# Altium footprint library Button_Switch_THT.PcbLib: 106 footprints (part 4 of 7)
Each footprint in its own frame and in the unit in brackets; x right, y up, seen from the top. Pads: shape width x height; smd on the part's side, far side on the other; paste and mask are expansions set on the pad; w line width, h text height; cw(c..) or ccw(c..) is an arc to the next point about the centre after c.
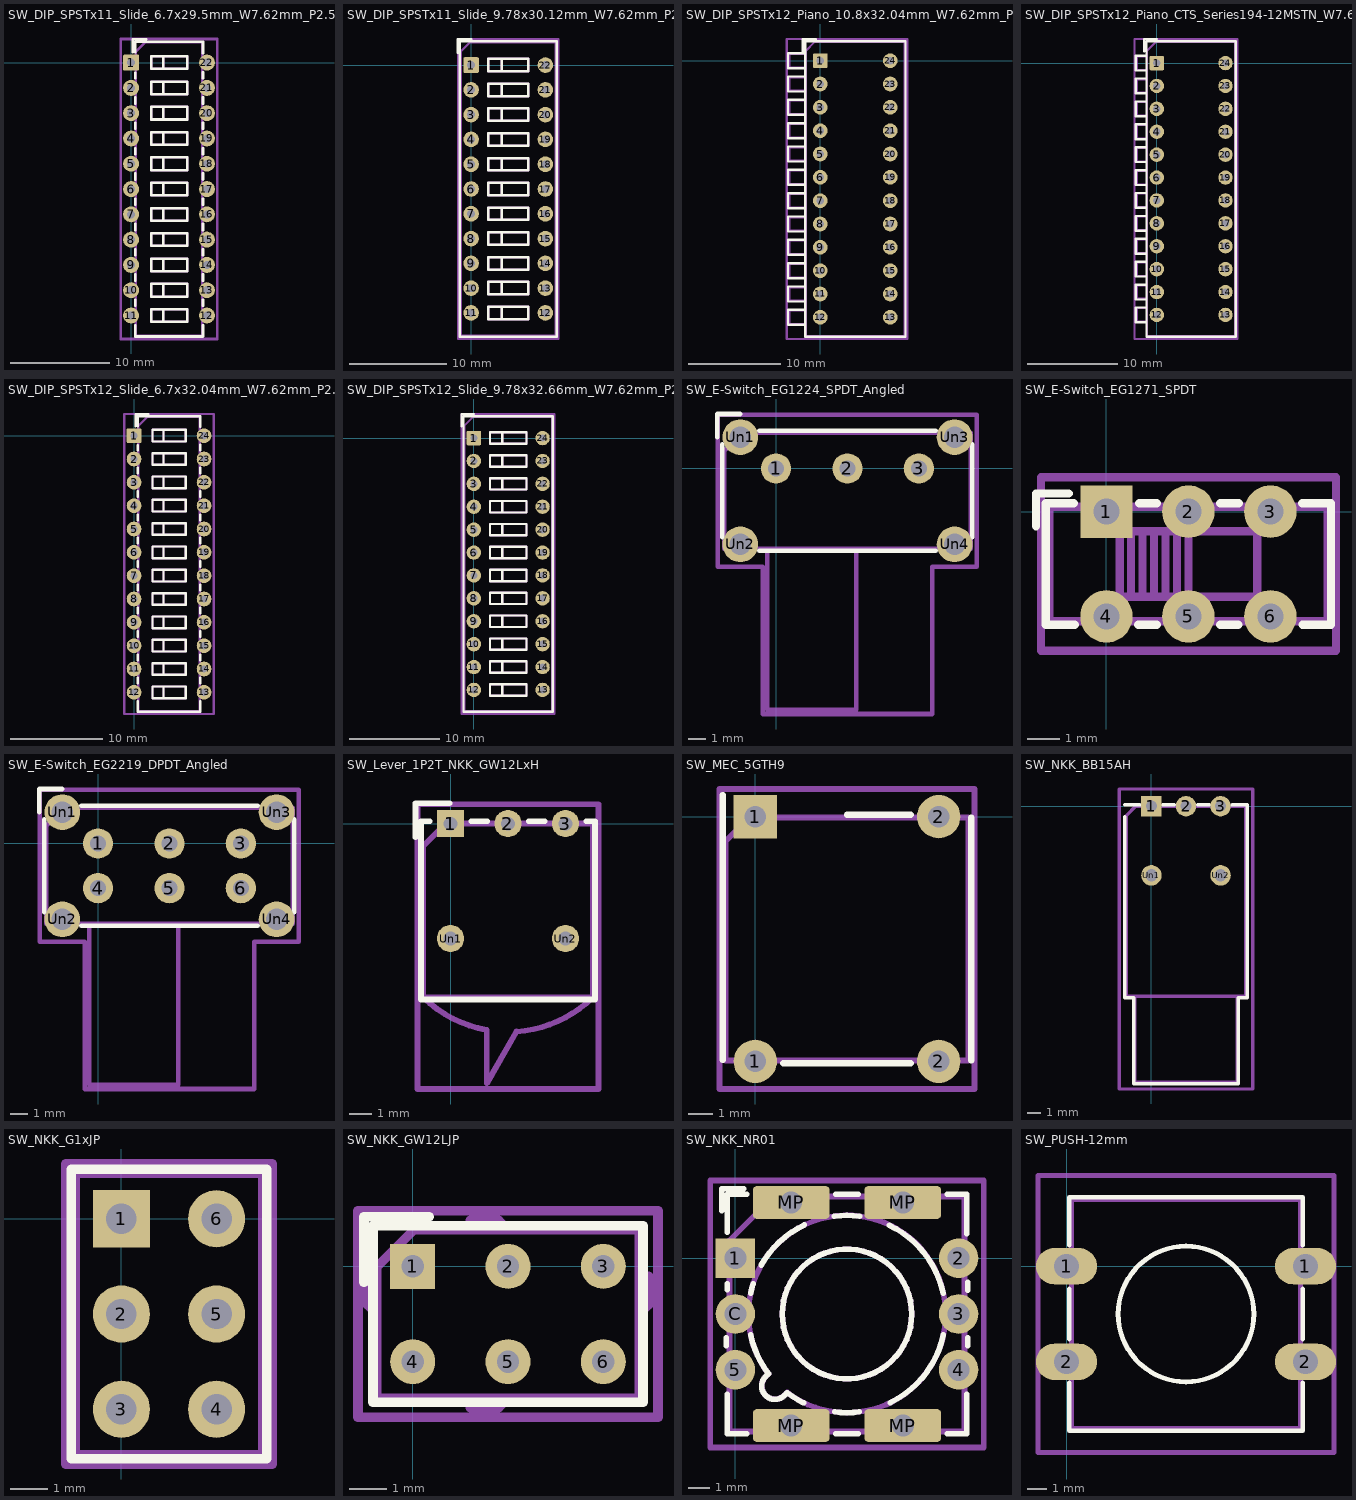
[diagram p3: the footprints below, top view; thin cyan lines are the x and y axes]

## SW_DIP_SPSTx11_Slide_6.7x29.5mm_W7.62mm_P2.54mm_LowProfile [mm]
pads (22):
  rrect16% 1.6x1.6 hole 0.8: 1(0,0)
  round 1.6 hole 0.8: 2(0,-2.54) 3(0,-5.08) 4(0,-7.62) 5(0,-10.16) 6(0,-12.7) 7(0,-15.24) 8(0,-17.78) 9(0,-20.32) 10(0,-22.86) 11(0,-25.4) 12(7.62,-25.4) 13(7.62,-22.86) 14(7.62,-20.32) 15(7.62,-17.78) 16(7.62,-15.24) 17(7.62,-12.7) 18(7.62,-10.16) 19(7.62,-7.62) 20(7.62,-5.08) 21(7.62,-2.54) 22(7.62,0)
F.SilkS:
  lines w0.254: 0.16,1.04 0.16,2.35 1.543,2.35 ; 0.4,-26.36 0.4,-27.51 7.22,-27.51 7.22,-26.36 ; 0.4,-24.44 0.4,-23.82 ; 0.4,-21.9 0.4,-21.28 ; 0.4,-19.36 0.4,-18.74 ; 0.4,-16.82 0.4,-16.2 ; 0.4,-14.28 0.4,-13.66 ; 0.4,-11.74 0.4,-11.12 ; 0.4,-9.2 0.4,-8.58 ; 0.4,-6.66 0.4,-6.04 ; 0.4,-4.12 0.4,-3.5 ; 0.4,-1.58 0.4,-1.04 ; 0.4,1.04 0.4,2.11 7.22,2.11 7.22,0.96 ; 7.22,-24.44 7.22,-23.82 ; 7.22,-21.9 7.22,-21.28 ; 7.22,-19.36 7.22,-18.74 ; 7.22,-16.82 7.22,-16.2 ; 7.22,-14.28 7.22,-13.66 ; 7.22,-11.74 7.22,-11.12 ; 7.22,-9.2 7.22,-8.58 ; 7.22,-6.66 7.22,-6.04 ; 7.22,-4.12 7.22,-3.5 ; 7.22,-1.58 7.22,-0.96 ; 2,-26.035 2,-24.765 ; 2,-26.035 3.207,-26.035 ; 2,-26.035 2,-24.765 ; 2,-26.035 5.62,-26.035 5.62,-24.765 2,-24.765 ; 2,-24.765 3.207,-24.765 ; 2,-23.495 2,-22.225 ; 2,-23.495 3.207,-23.495 ; 2,-23.495 2,-22.225 ; 2,-23.495 5.62,-23.495 5.62,-22.225 2,-22.225 ; 2,-22.225 3.207,-22.225 ; 2,-20.955 2,-19.685 ; 2,-20.955 3.207,-20.955 ; 2,-20.955 2,-19.685 ; 2,-20.955 5.62,-20.955 5.62,-19.685 2,-19.685 ; 2,-19.685 3.207,-19.685 ; 2,-18.415 2,-17.145 ; 2,-18.415 3.207,-18.415 ; 2,-18.415 2,-17.145 ; 2,-18.415 5.62,-18.415 5.62,-17.145 2,-17.145 ; 2,-17.145 3.207,-17.145 ; 2,-15.875 2,-14.605 ; 2,-15.875 3.207,-15.875 ; 2,-15.875 2,-14.605 ; 2,-15.875 5.62,-15.875 5.62,-14.605 2,-14.605 ; 2,-14.605 3.207,-14.605 ; 2,-13.335 2,-12.065 ; 2,-13.335 3.207,-13.335 ; 2,-13.335 2,-12.065 ; 2,-13.335 5.62,-13.335 5.62,-12.065 2,-12.065 ; 2,-12.065 3.207,-12.065 ; 2,-10.795 2,-9.525 ; 2,-10.795 3.207,-10.795 ; 2,-10.795 2,-9.525 ; 2,-10.795 5.62,-10.795 5.62,-9.525 2,-9.525 ; 2,-9.525 3.207,-9.525 ; 2,-8.255 2,-6.985 ; 2,-8.255 3.207,-8.255 ; 2,-8.255 2,-6.985 ; 2,-8.255 5.62,-8.255 5.62,-6.985 2,-6.985 ; 2,-6.985 3.207,-6.985 ; 2,-5.715 2,-4.445 ; 2,-5.715 3.207,-5.715 ; 2,-5.715 2,-4.445 ; 2,-5.715 5.62,-5.715 5.62,-4.445 2,-4.445 ; 2,-4.445 3.207,-4.445 ; 2,-3.175 2,-1.905 ; 2,-3.175 3.207,-3.175 ; 2,-3.175 2,-1.905 ; 2,-3.175 5.62,-3.175 5.62,-1.905 2,-1.905 ; 2,-1.905 3.207,-1.905 ; 2,-0.635 2,0.635 ; 2,-0.635 3.207,-0.635 ; 2,-0.635 2,0.635 ; 2,-0.635 5.62,-0.635 5.62,0.635 2,0.635 ; 2,0.635 3.207,0.635 ; 3.207,-26.035 3.207,-24.765 ; 3.207,-26.035 3.207,-24.765 ; 3.207,-23.495 3.207,-22.225 ; 3.207,-23.495 3.207,-22.225 ; 3.207,-20.955 3.207,-19.685 ; 3.207,-20.955 3.207,-19.685 ; 3.207,-18.415 3.207,-17.145 ; 3.207,-18.415 3.207,-17.145 ; 3.207,-15.875 3.207,-14.605 ; 3.207,-15.875 3.207,-14.605 ; 3.207,-13.335 3.207,-12.065 ; 3.207,-13.335 3.207,-12.065 ; 3.207,-10.795 3.207,-9.525 ; 3.207,-10.795 3.207,-9.525 ; 3.207,-8.255 3.207,-6.985 ; 3.207,-8.255 3.207,-6.985 ; 3.207,-5.715 3.207,-4.445 ; 3.207,-5.715 3.207,-4.445 ; 3.207,-3.175 3.207,-1.905 ; 3.207,-3.175 3.207,-1.905 ; 3.207,-0.635 3.207,0.635 ; 3.207,-0.635 3.207,0.635
F.Fab:
  lines w0.254: 2,-26.035 2,-24.765 ; 2,-26.035 3.207,-26.035 ; 2,-26.035 2,-24.765 ; 2,-26.035 5.62,-26.035 5.62,-24.765 2,-24.765 ; 2,-24.765 3.207,-24.765 ; 2,-23.495 2,-22.225 ; 2,-23.495 3.207,-23.495 ; 2,-23.495 2,-22.225 ; 2,-23.495 5.62,-23.495 5.62,-22.225 2,-22.225 ; 2,-22.225 3.207,-22.225 ; 2,-20.955 2,-19.685 ; 2,-20.955 3.207,-20.955 ; 2,-20.955 2,-19.685 ; 2,-20.955 5.62,-20.955 5.62,-19.685 2,-19.685 ; 2,-19.685 3.207,-19.685 ; 2,-18.415 2,-17.145 ; 2,-18.415 3.207,-18.415 ; 2,-18.415 2,-17.145 ; 2,-18.415 5.62,-18.415 5.62,-17.145 2,-17.145 ; 2,-17.145 3.207,-17.145 ; 2,-15.875 2,-14.605 ; 2,-15.875 3.207,-15.875 ; 2,-15.875 2,-14.605 ; 2,-15.875 5.62,-15.875 5.62,-14.605 2,-14.605 ; 2,-14.605 3.207,-14.605 ; 2,-13.335 2,-12.065 ; 2,-13.335 3.207,-13.335 ; 2,-13.335 2,-12.065 ; 2,-13.335 5.62,-13.335 5.62,-12.065 2,-12.065 ; 2,-12.065 3.207,-12.065 ; 2,-10.795 2,-9.525 ; 2,-10.795 3.207,-10.795 ; 2,-10.795 2,-9.525 ; 2,-10.795 5.62,-10.795 5.62,-9.525 2,-9.525 ; 2,-9.525 3.207,-9.525 ; 2,-8.255 2,-6.985 ; 2,-8.255 3.207,-8.255 ; 2,-8.255 2,-6.985 ; 2,-8.255 5.62,-8.255 5.62,-6.985 2,-6.985 ; 2,-6.985 3.207,-6.985 ; 2,-5.715 2,-4.445 ; 2,-5.715 3.207,-5.715 ; 2,-5.715 2,-4.445 ; 2,-5.715 5.62,-5.715 5.62,-4.445 2,-4.445 ; 2,-4.445 3.207,-4.445 ; 2,-3.175 2,-1.905 ; 2,-3.175 3.207,-3.175 ; 2,-3.175 2,-1.905 ; 2,-3.175 5.62,-3.175 5.62,-1.905 2,-1.905 ; 2,-1.905 3.207,-1.905 ; 2,-0.635 2,0.635 ; 2,-0.635 3.207,-0.635 ; 2,-0.635 2,0.635 ; 2,-0.635 5.62,-0.635 5.62,0.635 2,0.635 ; 2,0.635 3.207,0.635 ; 3.207,-26.035 3.207,-24.765 ; 3.207,-26.035 3.207,-24.765 ; 3.207,-23.495 3.207,-22.225 ; 3.207,-23.495 3.207,-22.225 ; 3.207,-20.955 3.207,-19.685 ; 3.207,-20.955 3.207,-19.685 ; 3.207,-18.415 3.207,-17.145 ; 3.207,-18.415 3.207,-17.145 ; 3.207,-15.875 3.207,-14.605 ; 3.207,-15.875 3.207,-14.605 ; 3.207,-13.335 3.207,-12.065 ; 3.207,-13.335 3.207,-12.065 ; 3.207,-10.795 3.207,-9.525 ; 3.207,-10.795 3.207,-9.525 ; 3.207,-8.255 3.207,-6.985 ; 3.207,-8.255 3.207,-6.985 ; 3.207,-5.715 3.207,-4.445 ; 3.207,-5.715 3.207,-4.445 ; 3.207,-3.175 3.207,-1.905 ; 3.207,-3.175 3.207,-1.905 ; 3.207,-0.635 3.207,0.635 ; 3.207,-0.635 3.207,0.635 ; 0.46,-27.45 0.46,1.05 1.46,2.05 7.16,2.05 7.16,-27.45 0.46,-27.45
  text "'.Designator'" at 7.062,-15.937 h0.8
  text "on" at 3.82,0.956 h0.8
F.CrtYd:
  lines w0.254: -1.06,-27.76 -1.06,2.37 8.67,2.37 8.67,-27.76 -1.06,-27.76

## SW_DIP_SPSTx11_Slide_9.78x30.12mm_W7.62mm_P2.54mm [mm]
pads (22):
  rrect16% 1.6x1.6 hole 0.8: 1(0,0)
  round 1.6 hole 0.8: 2(0,-2.54) 3(0,-5.08) 4(0,-7.62) 5(0,-10.16) 6(0,-12.7) 7(0,-15.24) 8(0,-17.78) 9(0,-20.32) 10(0,-22.86) 11(0,-25.4) 12(7.62,-25.4) 13(7.62,-22.86) 14(7.62,-20.32) 15(7.62,-17.78) 16(7.62,-15.24) 17(7.62,-12.7) 18(7.62,-10.16) 19(7.62,-7.62) 20(7.62,-5.08) 21(7.62,-2.54) 22(7.62,0)
F.SilkS:
  lines w0.254: -1.38,1.277 -1.38,2.66 0.003,2.66 ; 1.78,-26.035 1.78,-24.765 ; 1.78,-26.035 3.133,-26.035 ; 1.78,-26.035 1.78,-24.765 ; 1.78,-26.035 5.84,-26.035 5.84,-24.765 1.78,-24.765 ; 1.78,-24.765 3.133,-24.765 ; 1.78,-23.495 1.78,-22.225 ; 1.78,-23.495 3.133,-23.495 ; 1.78,-23.495 1.78,-22.225 ; 1.78,-23.495 5.84,-23.495 5.84,-22.225 1.78,-22.225 ; 1.78,-22.225 3.133,-22.225 ; 1.78,-20.955 1.78,-19.685 ; 1.78,-20.955 3.133,-20.955 ; 1.78,-20.955 1.78,-19.685 ; 1.78,-20.955 5.84,-20.955 5.84,-19.685 1.78,-19.685 ; 1.78,-19.685 3.133,-19.685 ; 1.78,-18.415 1.78,-17.145 ; 1.78,-18.415 3.133,-18.415 ; 1.78,-18.415 1.78,-17.145 ; 1.78,-18.415 5.84,-18.415 5.84,-17.145 1.78,-17.145 ; 1.78,-17.145 3.133,-17.145 ; 1.78,-15.875 1.78,-14.605 ; 1.78,-15.875 3.133,-15.875 ; 1.78,-15.875 1.78,-14.605 ; 1.78,-15.875 5.84,-15.875 5.84,-14.605 1.78,-14.605 ; 1.78,-14.605 3.133,-14.605 ; 1.78,-13.335 1.78,-12.065 ; 1.78,-13.335 3.133,-13.335 ; 1.78,-13.335 1.78,-12.065 ; 1.78,-13.335 5.84,-13.335 5.84,-12.065 1.78,-12.065 ; 1.78,-12.065 3.133,-12.065 ; 1.78,-10.795 1.78,-9.525 ; 1.78,-10.795 3.133,-10.795 ; 1.78,-10.795 1.78,-9.525 ; 1.78,-10.795 5.84,-10.795 5.84,-9.525 1.78,-9.525 ; 1.78,-9.525 3.133,-9.525 ; 1.78,-8.255 1.78,-6.985 ; 1.78,-8.255 3.133,-8.255 ; 1.78,-8.255 1.78,-6.985 ; 1.78,-8.255 5.84,-8.255 5.84,-6.985 1.78,-6.985 ; 1.78,-6.985 3.133,-6.985 ; 1.78,-5.715 1.78,-4.445 ; 1.78,-5.715 3.133,-5.715 ; 1.78,-5.715 1.78,-4.445 ; 1.78,-5.715 5.84,-5.715 5.84,-4.445 1.78,-4.445 ; 1.78,-4.445 3.133,-4.445 ; 1.78,-3.175 1.78,-1.905 ; 1.78,-3.175 3.133,-3.175 ; 1.78,-3.175 1.78,-1.905 ; 1.78,-3.175 5.84,-3.175 5.84,-1.905 1.78,-1.905 ; 1.78,-1.905 3.133,-1.905 ; 1.78,-0.635 1.78,0.635 ; 1.78,-0.635 3.133,-0.635 ; 1.78,-0.635 1.78,0.635 ; 1.78,-0.635 5.84,-0.635 5.84,0.635 1.78,0.635 ; 1.78,0.635 3.133,0.635 ; 3.133,-26.035 3.133,-24.765 ; 3.133,-26.035 3.133,-24.765 ; 3.133,-23.495 3.133,-22.225 ; 3.133,-23.495 3.133,-22.225 ; 3.133,-20.955 3.133,-19.685 ; 3.133,-20.955 3.133,-19.685 ; 3.133,-18.415 3.133,-17.145 ; 3.133,-18.415 3.133,-17.145 ; 3.133,-15.875 3.133,-14.605 ; 3.133,-15.875 3.133,-14.605 ; 3.133,-13.335 3.133,-12.065 ; 3.133,-13.335 3.133,-12.065 ; 3.133,-10.795 3.133,-9.525 ; 3.133,-10.795 3.133,-9.525 ; 3.133,-8.255 3.133,-6.985 ; 3.133,-8.255 3.133,-6.985 ; 3.133,-5.715 3.133,-4.445 ; 3.133,-5.715 3.133,-4.445 ; 3.133,-3.175 3.133,-1.905 ; 3.133,-3.175 3.133,-1.905 ; 3.133,-0.635 3.133,0.635 ; 3.133,-0.635 3.133,0.635 ; -1.14,-27.82 -1.14,2.42 8.76,2.42 8.76,-27.82 -1.14,-27.82
F.Fab:
  lines w0.254: 1.78,-26.035 1.78,-24.765 ; 1.78,-26.035 3.133,-26.035 ; 1.78,-26.035 1.78,-24.765 ; 1.78,-26.035 5.84,-26.035 5.84,-24.765 1.78,-24.765 ; 1.78,-24.765 3.133,-24.765 ; 1.78,-23.495 1.78,-22.225 ; 1.78,-23.495 3.133,-23.495 ; 1.78,-23.495 1.78,-22.225 ; 1.78,-23.495 5.84,-23.495 5.84,-22.225 1.78,-22.225 ; 1.78,-22.225 3.133,-22.225 ; 1.78,-20.955 1.78,-19.685 ; 1.78,-20.955 3.133,-20.955 ; 1.78,-20.955 1.78,-19.685 ; 1.78,-20.955 5.84,-20.955 5.84,-19.685 1.78,-19.685 ; 1.78,-19.685 3.133,-19.685 ; 1.78,-18.415 1.78,-17.145 ; 1.78,-18.415 3.133,-18.415 ; 1.78,-18.415 1.78,-17.145 ; 1.78,-18.415 5.84,-18.415 5.84,-17.145 1.78,-17.145 ; 1.78,-17.145 3.133,-17.145 ; 1.78,-15.875 1.78,-14.605 ; 1.78,-15.875 3.133,-15.875 ; 1.78,-15.875 1.78,-14.605 ; 1.78,-15.875 5.84,-15.875 5.84,-14.605 1.78,-14.605 ; 1.78,-14.605 3.133,-14.605 ; 1.78,-13.335 1.78,-12.065 ; 1.78,-13.335 3.133,-13.335 ; 1.78,-13.335 1.78,-12.065 ; 1.78,-13.335 5.84,-13.335 5.84,-12.065 1.78,-12.065 ; 1.78,-12.065 3.133,-12.065 ; 1.78,-10.795 1.78,-9.525 ; 1.78,-10.795 3.133,-10.795 ; 1.78,-10.795 1.78,-9.525 ; 1.78,-10.795 5.84,-10.795 5.84,-9.525 1.78,-9.525 ; 1.78,-9.525 3.133,-9.525 ; 1.78,-8.255 1.78,-6.985 ; 1.78,-8.255 3.133,-8.255 ; 1.78,-8.255 1.78,-6.985 ; 1.78,-8.255 5.84,-8.255 5.84,-6.985 1.78,-6.985 ; 1.78,-6.985 3.133,-6.985 ; 1.78,-5.715 1.78,-4.445 ; 1.78,-5.715 3.133,-5.715 ; 1.78,-5.715 1.78,-4.445 ; 1.78,-5.715 5.84,-5.715 5.84,-4.445 1.78,-4.445 ; 1.78,-4.445 3.133,-4.445 ; 1.78,-3.175 1.78,-1.905 ; 1.78,-3.175 3.133,-3.175 ; 1.78,-3.175 1.78,-1.905 ; 1.78,-3.175 5.84,-3.175 5.84,-1.905 1.78,-1.905 ; 1.78,-1.905 3.133,-1.905 ; 1.78,-0.635 1.78,0.635 ; 1.78,-0.635 3.133,-0.635 ; 1.78,-0.635 1.78,0.635 ; 1.78,-0.635 5.84,-0.635 5.84,0.635 1.78,0.635 ; 1.78,0.635 3.133,0.635 ; 3.133,-26.035 3.133,-24.765 ; 3.133,-26.035 3.133,-24.765 ; 3.133,-23.495 3.133,-22.225 ; 3.133,-23.495 3.133,-22.225 ; 3.133,-20.955 3.133,-19.685 ; 3.133,-20.955 3.133,-19.685 ; 3.133,-18.415 3.133,-17.145 ; 3.133,-18.415 3.133,-17.145 ; 3.133,-15.875 3.133,-14.605 ; 3.133,-15.875 3.133,-14.605 ; 3.133,-13.335 3.133,-12.065 ; 3.133,-13.335 3.133,-12.065 ; 3.133,-10.795 3.133,-9.525 ; 3.133,-10.795 3.133,-9.525 ; 3.133,-8.255 3.133,-6.985 ; 3.133,-8.255 3.133,-6.985 ; 3.133,-5.715 3.133,-4.445 ; 3.133,-5.715 3.133,-4.445 ; 3.133,-3.175 3.133,-1.905 ; 3.133,-3.175 3.133,-1.905 ; 3.133,-0.635 3.133,0.635 ; 3.133,-0.635 3.133,0.635 ; -1.08,-27.76 -1.08,1.36 -0.08,2.36 8.7,2.36 8.7,-27.76 -1.08,-27.76
  text "'.Designator'" at 7.942,-15.937 h0.8
  text "on" at 4.7,1.111 h0.8
F.CrtYd:
  lines w0.254: -1.33,-28.07 -1.33,2.67 8.95,2.67 8.95,-28.07 -1.33,-28.07

## SW_DIP_SPSTx12_Piano_10.8x32.04mm_W7.62mm_P2.54mm [mm]
pads (24):
  rrect16% 1.6x1.6 hole 0.8: 1(0,0)
  round 1.6 hole 0.8: 2(0,-2.54) 3(0,-5.08) 4(0,-7.62) 5(0,-10.16) 6(0,-12.7) 7(0,-15.24) 8(0,-17.78) 9(0,-20.32) 10(0,-22.86) 11(0,-25.4) 12(0,-27.94) 13(7.62,-27.94) 14(7.62,-25.4) 15(7.62,-22.86) 16(7.62,-20.32) 17(7.62,-17.78) 18(7.62,-15.24) 19(7.62,-12.7) 20(7.62,-10.16) 21(7.62,-7.62) 22(7.62,-5.08) 23(7.62,-2.54) 24(7.62,0)
F.SilkS:
  lines w0.254: -1.89,0.967 -1.89,2.35 -0.507,2.35 ; -3.51,-28.75 -3.51,-27.13 -1.65,-27.13 -1.65,-28.75 -3.51,-28.75 ; -3.51,-26.21 -3.51,-24.59 -1.65,-24.59 -1.65,-26.21 -3.51,-26.21 ; -3.51,-23.67 -3.51,-22.05 -1.65,-22.05 -1.65,-23.67 -3.51,-23.67 ; -3.51,-21.13 -3.51,-19.51 -1.65,-19.51 -1.65,-21.13 -3.51,-21.13 ; -3.51,-18.59 -3.51,-16.97 -1.65,-16.97 -1.65,-18.59 -3.51,-18.59 ; -3.51,-16.05 -3.51,-14.43 -1.65,-14.43 -1.65,-16.05 -3.51,-16.05 ; -3.51,-13.51 -3.51,-11.89 -1.65,-11.89 -1.65,-13.51 -3.51,-13.51 ; -3.51,-10.97 -3.51,-9.35 -1.65,-9.35 -1.65,-10.97 -3.51,-10.97 ; -3.51,-8.43 -3.51,-6.81 -1.65,-6.81 -1.65,-8.43 -3.51,-8.43 ; -3.51,-5.89 -3.51,-4.27 -1.65,-4.27 -1.65,-5.89 -3.51,-5.89 ; -3.51,-3.35 -3.51,-1.73 -1.65,-1.73 -1.65,-3.35 -3.51,-3.35 ; -3.51,-0.81 -3.51,0.81 -1.65,0.81 -1.65,-0.81 -3.51,-0.81 ; -1.65,-30.05 -1.65,2.11 9.27,2.11 9.27,-30.05 -1.65,-30.05
F.Fab:
  lines w0.254: -3.39,-28.69 -3.39,-27.19 -1.59,-27.19 -1.59,-28.69 -3.39,-28.69 ; -3.39,-26.15 -3.39,-24.65 -1.59,-24.65 -1.59,-26.15 -3.39,-26.15 ; -3.39,-23.61 -3.39,-22.11 -1.59,-22.11 -1.59,-23.61 -3.39,-23.61 ; -3.39,-21.07 -3.39,-19.57 -1.59,-19.57 -1.59,-21.07 -3.39,-21.07 ; -3.39,-18.53 -3.39,-17.03 -1.59,-17.03 -1.59,-18.53 -3.39,-18.53 ; -3.39,-15.99 -3.39,-14.49 -1.59,-14.49 -1.59,-15.99 -3.39,-15.99 ; -3.39,-13.45 -3.39,-11.95 -1.59,-11.95 -1.59,-13.45 -3.39,-13.45 ; -3.39,-10.91 -3.39,-9.41 -1.59,-9.41 -1.59,-10.91 -3.39,-10.91 ; -3.39,-8.37 -3.39,-6.87 -1.59,-6.87 -1.59,-8.37 -3.39,-8.37 ; -3.39,-5.83 -3.39,-4.33 -1.59,-4.33 -1.59,-5.83 -3.39,-5.83 ; -3.39,-3.29 -3.39,-1.79 -1.59,-1.79 -1.59,-3.29 -3.39,-3.29 ; -3.39,-0.75 -3.39,0.75 -1.59,0.75 -1.59,-0.75 -3.39,-0.75 ; -1.59,-29.99 -1.59,1.05 -0.59,2.05 9.21,2.05 9.21,-29.99 -1.59,-29.99
  text "'.Designator'" at 0.573,-14.642 h0.8
F.CrtYd:
  lines w0.254: -3.65,-30.3 -3.65,2.36 9.47,2.36 9.47,-30.3 -3.65,-30.3

## SW_DIP_SPSTx12_Piano_CTS_Series194-12MSTN_W7.62mm_P2.54mm [mm]
pads (24):
  rrect16% 1.6x1.6 hole 0.8: 1(0,0)
  round 1.6 hole 0.8: 2(0,-2.54) 3(0,-5.08) 4(0,-7.62) 5(0,-10.16) 6(0,-12.7) 7(0,-15.24) 8(0,-17.78) 9(0,-20.32) 10(0,-22.86) 11(0,-25.4) 12(0,-27.94) 13(7.62,-27.94) 14(7.62,-25.4) 15(7.62,-22.86) 16(7.62,-20.32) 17(7.62,-17.78) 18(7.62,-15.24) 19(7.62,-12.7) 20(7.62,-10.16) 21(7.62,-7.62) 22(7.62,-5.08) 23(7.62,-2.54) 24(7.62,0)
F.SilkS:
  lines w0.254: -1.38,1.277 -1.38,2.66 0.003,2.66 ; -2.34,-28.76 -2.34,-27.12 -1.14,-27.12 -1.14,-28.76 -2.34,-28.76 ; -2.34,-26.22 -2.34,-24.58 -1.14,-24.58 -1.14,-26.22 -2.34,-26.22 ; -2.34,-23.68 -2.34,-22.04 -1.14,-22.04 -1.14,-23.68 -2.34,-23.68 ; -2.34,-21.14 -2.34,-19.5 -1.14,-19.5 -1.14,-21.14 -2.34,-21.14 ; -2.34,-18.6 -2.34,-16.96 -1.14,-16.96 -1.14,-18.6 -2.34,-18.6 ; -2.34,-16.06 -2.34,-14.42 -1.14,-14.42 -1.14,-16.06 -2.34,-16.06 ; -2.34,-13.52 -2.34,-11.88 -1.14,-11.88 -1.14,-13.52 -2.34,-13.52 ; -2.34,-10.98 -2.34,-9.34 -1.14,-9.34 -1.14,-10.98 -2.34,-10.98 ; -2.34,-8.44 -2.34,-6.8 -1.14,-6.8 -1.14,-8.44 -2.34,-8.44 ; -2.34,-5.9 -2.34,-4.26 -1.14,-4.26 -1.14,-5.9 -2.34,-5.9 ; -2.34,-3.36 -2.34,-1.72 -1.14,-1.72 -1.14,-3.36 -2.34,-3.36 ; -2.34,-0.82 -2.34,0.82 -1.14,0.82 -1.14,-0.82 -2.34,-0.82 ; -1.14,-30.36 -1.14,2.42 8.76,2.42 8.76,-30.36 -1.14,-30.36
F.Fab:
  lines w0.254: -2.22,-28.7 -2.22,-27.18 -1.08,-27.18 -1.08,-28.7 -2.22,-28.7 ; -2.22,-26.16 -2.22,-24.64 -1.08,-24.64 -1.08,-26.16 -2.22,-26.16 ; -2.22,-23.62 -2.22,-22.1 -1.08,-22.1 -1.08,-23.62 -2.22,-23.62 ; -2.22,-21.08 -2.22,-19.56 -1.08,-19.56 -1.08,-21.08 -2.22,-21.08 ; -2.22,-18.54 -2.22,-17.02 -1.08,-17.02 -1.08,-18.54 -2.22,-18.54 ; -2.22,-16 -2.22,-14.48 -1.08,-14.48 -1.08,-16 -2.22,-16 ; -2.22,-13.46 -2.22,-11.94 -1.08,-11.94 -1.08,-13.46 -2.22,-13.46 ; -2.22,-10.92 -2.22,-9.4 -1.08,-9.4 -1.08,-10.92 -2.22,-10.92 ; -2.22,-8.38 -2.22,-6.86 -1.08,-6.86 -1.08,-8.38 -2.22,-8.38 ; -2.22,-5.84 -2.22,-4.32 -1.08,-4.32 -1.08,-5.84 -2.22,-5.84 ; -2.22,-3.3 -2.22,-1.78 -1.08,-1.78 -1.08,-3.3 -2.22,-3.3 ; -2.22,-0.76 -2.22,0.76 -1.08,0.76 -1.08,-0.76 -2.22,-0.76 ; -1.08,-30.3 -1.08,1.36 -0.08,2.36 8.7,2.36 8.7,-30.3 -1.08,-30.3
  text "'.Designator'" at 0.573,-14.642 h0.8
F.CrtYd:
  lines w0.254: -2.47,-30.61 -2.47,2.67 8.95,2.67 8.95,-30.61 -2.47,-30.61

## SW_DIP_SPSTx12_Slide_6.7x32.04mm_W7.62mm_P2.54mm_LowProfile [mm]
pads (24):
  rrect16% 1.6x1.6 hole 0.8: 1(0,0)
  round 1.6 hole 0.8: 2(0,-2.54) 3(0,-5.08) 4(0,-7.62) 5(0,-10.16) 6(0,-12.7) 7(0,-15.24) 8(0,-17.78) 9(0,-20.32) 10(0,-22.86) 11(0,-25.4) 12(0,-27.94) 13(7.62,-27.94) 14(7.62,-25.4) 15(7.62,-22.86) 16(7.62,-20.32) 17(7.62,-17.78) 18(7.62,-15.24) 19(7.62,-12.7) 20(7.62,-10.16) 21(7.62,-7.62) 22(7.62,-5.08) 23(7.62,-2.54) 24(7.62,0)
F.SilkS:
  lines w0.254: 0.16,1.04 0.16,2.35 1.543,2.35 ; 0.4,-28.9 0.4,-30.05 7.22,-30.05 7.22,-28.9 ; 0.4,-26.98 0.4,-26.36 ; 0.4,-24.44 0.4,-23.82 ; 0.4,-21.9 0.4,-21.28 ; 0.4,-19.36 0.4,-18.74 ; 0.4,-16.82 0.4,-16.2 ; 0.4,-14.28 0.4,-13.66 ; 0.4,-11.74 0.4,-11.12 ; 0.4,-9.2 0.4,-8.58 ; 0.4,-6.66 0.4,-6.04 ; 0.4,-4.12 0.4,-3.5 ; 0.4,-1.58 0.4,-1.04 ; 0.4,1.04 0.4,2.11 7.22,2.11 7.22,0.96 ; 7.22,-26.98 7.22,-26.36 ; 7.22,-24.44 7.22,-23.82 ; 7.22,-21.9 7.22,-21.28 ; 7.22,-19.36 7.22,-18.74 ; 7.22,-16.82 7.22,-16.2 ; 7.22,-14.28 7.22,-13.66 ; 7.22,-11.74 7.22,-11.12 ; 7.22,-9.2 7.22,-8.58 ; 7.22,-6.66 7.22,-6.04 ; 7.22,-4.12 7.22,-3.5 ; 7.22,-1.58 7.22,-0.96 ; 2,-28.575 2,-27.305 ; 2,-28.575 3.207,-28.575 ; 2,-28.575 2,-27.305 ; 2,-28.575 5.62,-28.575 5.62,-27.305 2,-27.305 ; 2,-27.305 3.207,-27.305 ; 2,-26.035 2,-24.765 ; 2,-26.035 3.207,-26.035 ; 2,-26.035 2,-24.765 ; 2,-26.035 5.62,-26.035 5.62,-24.765 2,-24.765 ; 2,-24.765 3.207,-24.765 ; 2,-23.495 2,-22.225 ; 2,-23.495 3.207,-23.495 ; 2,-23.495 2,-22.225 ; 2,-23.495 5.62,-23.495 5.62,-22.225 2,-22.225 ; 2,-22.225 3.207,-22.225 ; 2,-20.955 2,-19.685 ; 2,-20.955 3.207,-20.955 ; 2,-20.955 2,-19.685 ; 2,-20.955 5.62,-20.955 5.62,-19.685 2,-19.685 ; 2,-19.685 3.207,-19.685 ; 2,-18.415 2,-17.145 ; 2,-18.415 3.207,-18.415 ; 2,-18.415 2,-17.145 ; 2,-18.415 5.62,-18.415 5.62,-17.145 2,-17.145 ; 2,-17.145 3.207,-17.145 ; 2,-15.875 2,-14.605 ; 2,-15.875 3.207,-15.875 ; 2,-15.875 2,-14.605 ; 2,-15.875 5.62,-15.875 5.62,-14.605 2,-14.605 ; 2,-14.605 3.207,-14.605 ; 2,-13.335 2,-12.065 ; 2,-13.335 3.207,-13.335 ; 2,-13.335 2,-12.065 ; 2,-13.335 5.62,-13.335 5.62,-12.065 2,-12.065 ; 2,-12.065 3.207,-12.065 ; 2,-10.795 2,-9.525 ; 2,-10.795 3.207,-10.795 ; 2,-10.795 2,-9.525 ; 2,-10.795 5.62,-10.795 5.62,-9.525 2,-9.525 ; 2,-9.525 3.207,-9.525 ; 2,-8.255 2,-6.985 ; 2,-8.255 3.207,-8.255 ; 2,-8.255 2,-6.985 ; 2,-8.255 5.62,-8.255 5.62,-6.985 2,-6.985 ; 2,-6.985 3.207,-6.985 ; 2,-5.715 2,-4.445 ; 2,-5.715 3.207,-5.715 ; 2,-5.715 2,-4.445 ; 2,-5.715 5.62,-5.715 5.62,-4.445 2,-4.445 ; 2,-4.445 3.207,-4.445 ; 2,-3.175 2,-1.905 ; 2,-3.175 3.207,-3.175 ; 2,-3.175 2,-1.905 ; 2,-3.175 5.62,-3.175 5.62,-1.905 2,-1.905 ; 2,-1.905 3.207,-1.905 ; 2,-0.635 2,0.635 ; 2,-0.635 3.207,-0.635 ; 2,-0.635 2,0.635 ; 2,-0.635 5.62,-0.635 5.62,0.635 2,0.635 ; 2,0.635 3.207,0.635 ; 3.207,-28.575 3.207,-27.305 ; 3.207,-28.575 3.207,-27.305 ; 3.207,-26.035 3.207,-24.765 ; 3.207,-26.035 3.207,-24.765 ; 3.207,-23.495 3.207,-22.225 ; 3.207,-23.495 3.207,-22.225 ; 3.207,-20.955 3.207,-19.685 ; 3.207,-20.955 3.207,-19.685 ; 3.207,-18.415 3.207,-17.145 ; 3.207,-18.415 3.207,-17.145 ; 3.207,-15.875 3.207,-14.605 ; 3.207,-15.875 3.207,-14.605 ; 3.207,-13.335 3.207,-12.065 ; 3.207,-13.335 3.207,-12.065 ; 3.207,-10.795 3.207,-9.525 ; 3.207,-10.795 3.207,-9.525 ; 3.207,-8.255 3.207,-6.985 ; 3.207,-8.255 3.207,-6.985 ; 3.207,-5.715 3.207,-4.445 ; 3.207,-5.715 3.207,-4.445 ; 3.207,-3.175 3.207,-1.905 ; 3.207,-3.175 3.207,-1.905 ; 3.207,-0.635 3.207,0.635 ; 3.207,-0.635 3.207,0.635
F.Fab:
  lines w0.254: 2,-28.575 2,-27.305 ; 2,-28.575 3.207,-28.575 ; 2,-28.575 2,-27.305 ; 2,-28.575 5.62,-28.575 5.62,-27.305 2,-27.305 ; 2,-27.305 3.207,-27.305 ; 2,-26.035 2,-24.765 ; 2,-26.035 3.207,-26.035 ; 2,-26.035 2,-24.765 ; 2,-26.035 5.62,-26.035 5.62,-24.765 2,-24.765 ; 2,-24.765 3.207,-24.765 ; 2,-23.495 2,-22.225 ; 2,-23.495 3.207,-23.495 ; 2,-23.495 2,-22.225 ; 2,-23.495 5.62,-23.495 5.62,-22.225 2,-22.225 ; 2,-22.225 3.207,-22.225 ; 2,-20.955 2,-19.685 ; 2,-20.955 3.207,-20.955 ; 2,-20.955 2,-19.685 ; 2,-20.955 5.62,-20.955 5.62,-19.685 2,-19.685 ; 2,-19.685 3.207,-19.685 ; 2,-18.415 2,-17.145 ; 2,-18.415 3.207,-18.415 ; 2,-18.415 2,-17.145 ; 2,-18.415 5.62,-18.415 5.62,-17.145 2,-17.145 ; 2,-17.145 3.207,-17.145 ; 2,-15.875 2,-14.605 ; 2,-15.875 3.207,-15.875 ; 2,-15.875 2,-14.605 ; 2,-15.875 5.62,-15.875 5.62,-14.605 2,-14.605 ; 2,-14.605 3.207,-14.605 ; 2,-13.335 2,-12.065 ; 2,-13.335 3.207,-13.335 ; 2,-13.335 2,-12.065 ; 2,-13.335 5.62,-13.335 5.62,-12.065 2,-12.065 ; 2,-12.065 3.207,-12.065 ; 2,-10.795 2,-9.525 ; 2,-10.795 3.207,-10.795 ; 2,-10.795 2,-9.525 ; 2,-10.795 5.62,-10.795 5.62,-9.525 2,-9.525 ; 2,-9.525 3.207,-9.525 ; 2,-8.255 2,-6.985 ; 2,-8.255 3.207,-8.255 ; 2,-8.255 2,-6.985 ; 2,-8.255 5.62,-8.255 5.62,-6.985 2,-6.985 ; 2,-6.985 3.207,-6.985 ; 2,-5.715 2,-4.445 ; 2,-5.715 3.207,-5.715 ; 2,-5.715 2,-4.445 ; 2,-5.715 5.62,-5.715 5.62,-4.445 2,-4.445 ; 2,-4.445 3.207,-4.445 ; 2,-3.175 2,-1.905 ; 2,-3.175 3.207,-3.175 ; 2,-3.175 2,-1.905 ; 2,-3.175 5.62,-3.175 5.62,-1.905 2,-1.905 ; 2,-1.905 3.207,-1.905 ; 2,-0.635 2,0.635 ; 2,-0.635 3.207,-0.635 ; 2,-0.635 2,0.635 ; 2,-0.635 5.62,-0.635 5.62,0.635 2,0.635 ; 2,0.635 3.207,0.635 ; 3.207,-28.575 3.207,-27.305 ; 3.207,-28.575 3.207,-27.305 ; 3.207,-26.035 3.207,-24.765 ; 3.207,-26.035 3.207,-24.765 ; 3.207,-23.495 3.207,-22.225 ; 3.207,-23.495 3.207,-22.225 ; 3.207,-20.955 3.207,-19.685 ; 3.207,-20.955 3.207,-19.685 ; 3.207,-18.415 3.207,-17.145 ; 3.207,-18.415 3.207,-17.145 ; 3.207,-15.875 3.207,-14.605 ; 3.207,-15.875 3.207,-14.605 ; 3.207,-13.335 3.207,-12.065 ; 3.207,-13.335 3.207,-12.065 ; 3.207,-10.795 3.207,-9.525 ; 3.207,-10.795 3.207,-9.525 ; 3.207,-8.255 3.207,-6.985 ; 3.207,-8.255 3.207,-6.985 ; 3.207,-5.715 3.207,-4.445 ; 3.207,-5.715 3.207,-4.445 ; 3.207,-3.175 3.207,-1.905 ; 3.207,-3.175 3.207,-1.905 ; 3.207,-0.635 3.207,0.635 ; 3.207,-0.635 3.207,0.635 ; 0.46,-29.99 0.46,1.05 1.46,2.05 7.16,2.05 7.16,-29.99 0.46,-29.99
  text "'.Designator'" at 7.062,-17.207 h0.8
  text "on" at 3.82,0.956 h0.8
F.CrtYd:
  lines w0.254: -1.06,-30.3 -1.06,2.36 8.67,2.36 8.67,-30.3 -1.06,-30.3

## SW_DIP_SPSTx12_Slide_9.78x32.66mm_W7.62mm_P2.54mm [mm]
pads (24):
  rrect16% 1.6x1.6 hole 0.8: 1(0,0)
  round 1.6 hole 0.8: 2(0,-2.54) 3(0,-5.08) 4(0,-7.62) 5(0,-10.16) 6(0,-12.7) 7(0,-15.24) 8(0,-17.78) 9(0,-20.32) 10(0,-22.86) 11(0,-25.4) 12(0,-27.94) 13(7.62,-27.94) 14(7.62,-25.4) 15(7.62,-22.86) 16(7.62,-20.32) 17(7.62,-17.78) 18(7.62,-15.24) 19(7.62,-12.7) 20(7.62,-10.16) 21(7.62,-7.62) 22(7.62,-5.08) 23(7.62,-2.54) 24(7.62,0)
F.SilkS:
  lines w0.254: -1.38,1.277 -1.38,2.66 0.003,2.66 ; 1.78,-28.575 1.78,-27.305 ; 1.78,-28.575 3.133,-28.575 ; 1.78,-28.575 1.78,-27.305 ; 1.78,-28.575 5.84,-28.575 5.84,-27.305 1.78,-27.305 ; 1.78,-27.305 3.133,-27.305 ; 1.78,-26.035 1.78,-24.765 ; 1.78,-26.035 3.133,-26.035 ; 1.78,-26.035 1.78,-24.765 ; 1.78,-26.035 5.84,-26.035 5.84,-24.765 1.78,-24.765 ; 1.78,-24.765 3.133,-24.765 ; 1.78,-23.495 1.78,-22.225 ; 1.78,-23.495 3.133,-23.495 ; 1.78,-23.495 1.78,-22.225 ; 1.78,-23.495 5.84,-23.495 5.84,-22.225 1.78,-22.225 ; 1.78,-22.225 3.133,-22.225 ; 1.78,-20.955 1.78,-19.685 ; 1.78,-20.955 3.133,-20.955 ; 1.78,-20.955 1.78,-19.685 ; 1.78,-20.955 5.84,-20.955 5.84,-19.685 1.78,-19.685 ; 1.78,-19.685 3.133,-19.685 ; 1.78,-18.415 1.78,-17.145 ; 1.78,-18.415 3.133,-18.415 ; 1.78,-18.415 1.78,-17.145 ; 1.78,-18.415 5.84,-18.415 5.84,-17.145 1.78,-17.145 ; 1.78,-17.145 3.133,-17.145 ; 1.78,-15.875 1.78,-14.605 ; 1.78,-15.875 3.133,-15.875 ; 1.78,-15.875 1.78,-14.605 ; 1.78,-15.875 5.84,-15.875 5.84,-14.605 1.78,-14.605 ; 1.78,-14.605 3.133,-14.605 ; 1.78,-13.335 1.78,-12.065 ; 1.78,-13.335 3.133,-13.335 ; 1.78,-13.335 1.78,-12.065 ; 1.78,-13.335 5.84,-13.335 5.84,-12.065 1.78,-12.065 ; 1.78,-12.065 3.133,-12.065 ; 1.78,-10.795 1.78,-9.525 ; 1.78,-10.795 3.133,-10.795 ; 1.78,-10.795 1.78,-9.525 ; 1.78,-10.795 5.84,-10.795 5.84,-9.525 1.78,-9.525 ; 1.78,-9.525 3.133,-9.525 ; 1.78,-8.255 1.78,-6.985 ; 1.78,-8.255 3.133,-8.255 ; 1.78,-8.255 1.78,-6.985 ; 1.78,-8.255 5.84,-8.255 5.84,-6.985 1.78,-6.985 ; 1.78,-6.985 3.133,-6.985 ; 1.78,-5.715 1.78,-4.445 ; 1.78,-5.715 3.133,-5.715 ; 1.78,-5.715 1.78,-4.445 ; 1.78,-5.715 5.84,-5.715 5.84,-4.445 1.78,-4.445 ; 1.78,-4.445 3.133,-4.445 ; 1.78,-3.175 1.78,-1.905 ; 1.78,-3.175 3.133,-3.175 ; 1.78,-3.175 1.78,-1.905 ; 1.78,-3.175 5.84,-3.175 5.84,-1.905 1.78,-1.905 ; 1.78,-1.905 3.133,-1.905 ; 1.78,-0.635 1.78,0.635 ; 1.78,-0.635 3.133,-0.635 ; 1.78,-0.635 1.78,0.635 ; 1.78,-0.635 5.84,-0.635 5.84,0.635 1.78,0.635 ; 1.78,0.635 3.133,0.635 ; 3.133,-28.575 3.133,-27.305 ; 3.133,-28.575 3.133,-27.305 ; 3.133,-26.035 3.133,-24.765 ; 3.133,-26.035 3.133,-24.765 ; 3.133,-23.495 3.133,-22.225 ; 3.133,-23.495 3.133,-22.225 ; 3.133,-20.955 3.133,-19.685 ; 3.133,-20.955 3.133,-19.685 ; 3.133,-18.415 3.133,-17.145 ; 3.133,-18.415 3.133,-17.145 ; 3.133,-15.875 3.133,-14.605 ; 3.133,-15.875 3.133,-14.605 ; 3.133,-13.335 3.133,-12.065 ; 3.133,-13.335 3.133,-12.065 ; 3.133,-10.795 3.133,-9.525 ; 3.133,-10.795 3.133,-9.525 ; 3.133,-8.255 3.133,-6.985 ; 3.133,-8.255 3.133,-6.985 ; 3.133,-5.715 3.133,-4.445 ; 3.133,-5.715 3.133,-4.445 ; 3.133,-3.175 3.133,-1.905 ; 3.133,-3.175 3.133,-1.905 ; 3.133,-0.635 3.133,0.635 ; 3.133,-0.635 3.133,0.635 ; -1.14,-30.36 -1.14,2.42 8.76,2.42 8.76,-30.36 -1.14,-30.36
F.Fab:
  lines w0.254: 1.78,-28.575 1.78,-27.305 ; 1.78,-28.575 3.133,-28.575 ; 1.78,-28.575 1.78,-27.305 ; 1.78,-28.575 5.84,-28.575 5.84,-27.305 1.78,-27.305 ; 1.78,-27.305 3.133,-27.305 ; 1.78,-26.035 1.78,-24.765 ; 1.78,-26.035 3.133,-26.035 ; 1.78,-26.035 1.78,-24.765 ; 1.78,-26.035 5.84,-26.035 5.84,-24.765 1.78,-24.765 ; 1.78,-24.765 3.133,-24.765 ; 1.78,-23.495 1.78,-22.225 ; 1.78,-23.495 3.133,-23.495 ; 1.78,-23.495 1.78,-22.225 ; 1.78,-23.495 5.84,-23.495 5.84,-22.225 1.78,-22.225 ; 1.78,-22.225 3.133,-22.225 ; 1.78,-20.955 1.78,-19.685 ; 1.78,-20.955 3.133,-20.955 ; 1.78,-20.955 1.78,-19.685 ; 1.78,-20.955 5.84,-20.955 5.84,-19.685 1.78,-19.685 ; 1.78,-19.685 3.133,-19.685 ; 1.78,-18.415 1.78,-17.145 ; 1.78,-18.415 3.133,-18.415 ; 1.78,-18.415 1.78,-17.145 ; 1.78,-18.415 5.84,-18.415 5.84,-17.145 1.78,-17.145 ; 1.78,-17.145 3.133,-17.145 ; 1.78,-15.875 1.78,-14.605 ; 1.78,-15.875 3.133,-15.875 ; 1.78,-15.875 1.78,-14.605 ; 1.78,-15.875 5.84,-15.875 5.84,-14.605 1.78,-14.605 ; 1.78,-14.605 3.133,-14.605 ; 1.78,-13.335 1.78,-12.065 ; 1.78,-13.335 3.133,-13.335 ; 1.78,-13.335 1.78,-12.065 ; 1.78,-13.335 5.84,-13.335 5.84,-12.065 1.78,-12.065 ; 1.78,-12.065 3.133,-12.065 ; 1.78,-10.795 1.78,-9.525 ; 1.78,-10.795 3.133,-10.795 ; 1.78,-10.795 1.78,-9.525 ; 1.78,-10.795 5.84,-10.795 5.84,-9.525 1.78,-9.525 ; 1.78,-9.525 3.133,-9.525 ; 1.78,-8.255 1.78,-6.985 ; 1.78,-8.255 3.133,-8.255 ; 1.78,-8.255 1.78,-6.985 ; 1.78,-8.255 5.84,-8.255 5.84,-6.985 1.78,-6.985 ; 1.78,-6.985 3.133,-6.985 ; 1.78,-5.715 1.78,-4.445 ; 1.78,-5.715 3.133,-5.715 ; 1.78,-5.715 1.78,-4.445 ; 1.78,-5.715 5.84,-5.715 5.84,-4.445 1.78,-4.445 ; 1.78,-4.445 3.133,-4.445 ; 1.78,-3.175 1.78,-1.905 ; 1.78,-3.175 3.133,-3.175 ; 1.78,-3.175 1.78,-1.905 ; 1.78,-3.175 5.84,-3.175 5.84,-1.905 1.78,-1.905 ; 1.78,-1.905 3.133,-1.905 ; 1.78,-0.635 1.78,0.635 ; 1.78,-0.635 3.133,-0.635 ; 1.78,-0.635 1.78,0.635 ; 1.78,-0.635 5.84,-0.635 5.84,0.635 1.78,0.635 ; 1.78,0.635 3.133,0.635 ; 3.133,-28.575 3.133,-27.305 ; 3.133,-28.575 3.133,-27.305 ; 3.133,-26.035 3.133,-24.765 ; 3.133,-26.035 3.133,-24.765 ; 3.133,-23.495 3.133,-22.225 ; 3.133,-23.495 3.133,-22.225 ; 3.133,-20.955 3.133,-19.685 ; 3.133,-20.955 3.133,-19.685 ; 3.133,-18.415 3.133,-17.145 ; 3.133,-18.415 3.133,-17.145 ; 3.133,-15.875 3.133,-14.605 ; 3.133,-15.875 3.133,-14.605 ; 3.133,-13.335 3.133,-12.065 ; 3.133,-13.335 3.133,-12.065 ; 3.133,-10.795 3.133,-9.525 ; 3.133,-10.795 3.133,-9.525 ; 3.133,-8.255 3.133,-6.985 ; 3.133,-8.255 3.133,-6.985 ; 3.133,-5.715 3.133,-4.445 ; 3.133,-5.715 3.133,-4.445 ; 3.133,-3.175 3.133,-1.905 ; 3.133,-3.175 3.133,-1.905 ; 3.133,-0.635 3.133,0.635 ; 3.133,-0.635 3.133,0.635 ; -1.08,-30.3 -1.08,1.36 -0.08,2.36 8.7,2.36 8.7,-30.3 -1.08,-30.3
  text "'.Designator'" at 7.942,-17.207 h0.8
  text "on" at 4.7,1.111 h0.8
F.CrtYd:
  lines w0.254: -1.33,-30.61 -1.33,2.67 8.95,2.67 8.95,-30.61 -1.33,-30.61

## SW_E-Switch_EG1224_SPDT_Angled [mm]
pads (7):
  round 1.7 hole 0.9: 1(0,0) 2(4,0) 3(8,0)
  round 2 hole 1.2: Un1(-2,1.75) Un2(-2,-4.25) Un3(10,1.75) Un4(10,-4.25)
F.SilkS:
  lines w0.254: -3.3,1.75 -3.3,3.05 -2,3.05 ; -3,-3.85 -3,1.35 ; -0.95,-4.6 8.95,-4.6 ; -0.95,2.1 8.95,2.1 ; 11,-3.85 11,1.35
F.Fab:
  lines w0.254: -0.5,-4.5 -0.5,-13.5 4.5,-13.5 4.5,-4.5 ; -2.9,-4.5 -2.9,1 -1.9,2 10.9,2 10.9,-4.5 -2.9,-4.5
  text "'.Designator'" at 0.003,-2.04 h1
F.CrtYd:
  lines w0.254: -3.25,-5.5 -3.25,3 11.25,3 11.25,-5.5 8.75,-5.5 8.75,-13.75 -0.75,-13.75 -0.75,-5.5 -3.25,-5.5

## SW_E-Switch_EG1271_SPDT [mm]
pads (6):
  rect 1.6x1.6 hole 0.8: 1(0,0)
  round 1.6 hole 0.8: 2(2.5,0) 3(5,0) 4(0,-3.2) 5(2.5,-3.2) 6(5,-3.2)
F.SilkS:
  lines w0.254: -2.15,-0.45 -2.15,0.55 -1.15,0.55 ; -1,0.25 -1.85,0.25 -1.85,-3.45 -0.97,-3.45 ; 0.97,-3.45 1.53,-3.45 ; 1,0.25 1.53,0.25 ; 3.47,-3.45 4.02,-3.45 ; 3.47,0.25 4.03,0.25 ; 5.97,0.25 6.85,0.25 6.85,-3.45 5.98,-3.45
F.Fab:
  lines w0.254: 0.75,-2.6 0.75,-0.6 ; 1.1,-2.6 1.1,-0.6 ; 1.45,-2.6 1.45,-0.6 ; 1.8,-2.6 1.8,-0.6 ; 2.15,-2.6 2.15,-0.6 ; 2.5,-2.6 2.5,-0.6 ; -1.75,-3.35 -1.75,0.15 6.75,0.15 6.75,-3.35 -1.75,-3.35 ; 0.4,-2.6 0.4,-0.6 4.6,-0.6 4.6,-2.6 0.4,-2.6
  text "'.Designator'" at -1.547,0.81 h1
F.CrtYd:
  lines w0.254: -2,-4.25 -2,1.05 7,1.05 7,-4.25 -2,-4.25

## SW_E-Switch_EG2219_DPDT_Angled [mm]
pads (10):
  round 1.7 hole 0.9: 1(0,0) 2(4,0) 3(8,0) 4(0,-2.5) 5(4,-2.5) 6(8,-2.5)
  round 2 hole 1.2: Un1(-2,1.75) Un2(-2,-4.25) Un3(10,1.75) Un4(10,-4.25)
F.SilkS:
  lines w0.254: -3.3,1.75 -3.3,3.05 -2,3.05 ; -3,-3.85 -3,1.35 ; -0.95,-4.6 8.95,-4.6 ; -0.95,2.1 8.95,2.1 ; 11,-3.85 11,1.35
F.Fab:
  lines w0.254: -0.5,-4.5 -0.5,-13.5 4.5,-13.5 4.5,-4.5 ; -2.9,-4.5 -2.9,1 -1.9,2 10.9,2 10.9,-4.5 -2.9,-4.5
  text "'.Designator'" at 0.003,-2.04 h1
F.CrtYd:
  lines w0.254: -3.25,-5.5 -3.25,3 11.25,3 11.25,-5.5 8.75,-5.5 8.75,-13.75 -0.75,-13.75 -0.75,-5.5 -3.25,-5.5

## SW_Lever_1P2T_NKK_GW12LxH [mm]
pads (5):
  rect 1.2x1.2 hole 0.6: 1(0,0)
  round 1.2 hole 0.6: 2(2.54,0) 3(5.08,0) Un1(0,-5.08) Un2(5.08,-5.08)
F.SilkS:
  lines w0.254: -1.55,-0.6 -1.55,0.9 -0.05,0.9 ; -0.914,0.1 -1.31,0.1 -1.31,-7.78 6.39,-7.78 6.39,0.1 5.994,0.1 ; 0.914,0.1 1.627,0.1 ; 3.454,0.1 4.167,0.1
F.Fab:
  lines w0.254: -1.205,-7.679 ccw(c2.54,-3.84) 1.6,-9.12 1.6,-11.48 2.92,-9.19 ; 2.916,-9.194 ccw(c2.54,-3.84) 6.29,-7.68 ; 6.29,-7.68 6.29,0 -0.21,0 -1.21,-1 -1.21,-7.68 6.29,-7.68
  text "'.Designator'" at -1.507,-4.68 h1
F.CrtYd:
  lines w0.254: -1.46,-11.73 -1.46,0.85 6.54,0.85 6.54,-11.73 -1.46,-11.73

## SW_MEC_5GTH9 [mm]
pads (4):
  round 1.8 hole 0.9: 1(0,-10.16) 2(7.62,-10.16) 2(7.62,0)
  rect 1.8x1.8 hole 0.9: 1(0,0)
F.SilkS:
  lines w0.254: -1.35,-10.11 -1.35,0.9 ; 1.16,-10.24 6.46,-10.24 ; 3.81,0.08 6.46,0.08 ; 8.97,-10.12 8.97,-0.04
F.Fab:
  lines w0.254: -1.24,-10.13 -1.24,-1.03 -0.24,-0.03 8.86,-0.03 8.86,-10.13 -1.24,-10.13
  text "'.Designator'" at -0.287,-5.87 h1
F.CrtYd:
  lines w0.254: -1.49,-11.31 9.11,-11.31 9.11,1.15 -1.49,1.15 -1.49,-11.3

## SW_NKK_BB15AH [mm]
pads (5):
  rect 1.5x1.5 hole 0.8: 1(0,0)
  round 1.5 hole 0.8: 2(2.54,0) 3(5.08,0)
  round 1.5 hole 0.9: Un1(0,-5.08) Un2(5.08,-5.08)
F.SilkS:
  lines w0.254: -1.96,-0.79 -1.96,-14.06 -1.31,-14.06 -1.31,-20.36 6.39,-20.36 6.39,-14.06 7.04,-14.06 7.04,0.11 5.94,0.11 ; -1.96,0.11 -0.86,0.11 ; 0.84,0.11 1.69,0.11 ; 3.39,0.11 4.24,0.11
F.Fab:
  lines w0.254: -1.21,-13.96 -1.21,-20.26 6.29,-20.26 6.29,-13.96 ; -1.86,-13.96 -1.86,-0.69 -1.16,0.01 6.94,0.01 6.94,-13.96 -1.86,-13.96
  text "'.Designator'" at -1.532,-3.73 h1
F.CrtYd:
  lines w0.254: -2.36,-20.76 -2.36,1.26 7.44,1.26 7.44,-20.76 -2.36,-20.76

## SW_NKK_G1xJP [mil]
pads (6):
  rect 60x60 hole 32: 1(0,0)
  round 60 hole 32: 2(0,-100) 3(0,-200) 4(100,-200) 5(100,-100) 6(100,0)
F.SilkS:
  lines w10: -52.8,-252 -52.8,52 152.8,52 152.8,-252 -52.8,-252
F.Fab:
  lines w10: -48.43,-247.64 -48.43,47.64 148.43,47.64 148.43,-247.64 -48.43,-247.64
  text "'.Designator'" at -109.32,53.53 h39.37
F.CrtYd:
  lines w10: -58.27,-257.48 -58.27,57.48 158.27,57.48 158.27,-257.48 -58.27,-257.48

## SW_NKK_GW12LJP [mm]
pads (6):
  rect 1.2x1.2 hole 0.6: 1(0,0)
  round 1.2 hole 0.6: 2(2.54,0) 3(5.08,0) 4(0,-2.54) 5(2.54,-2.54) 6(5.08,-2.54)
F.SilkS:
  lines w0.254: -1.3,-0.42 -1.3,1.32 0.44,1.32 ; -1.06,-3.62 -1.06,1.08 6.14,1.08 6.14,-3.62 -1.06,-3.62
F.Fab:
  lines w0.254: -0.96,-1.27 -1.21,-1.02 -1.21,-0.27 -0.96,-0.27 ; 1.54,-3.52 1.54,-3.77 2.29,-3.77 2.54,-3.52 ; 1.54,0.98 1.54,1.23 2.29,1.23 2.54,0.98 ; 6.04,-1.27 6.29,-1.02 6.29,-0.27 6.04,-0.27 ; -0.96,-3.52 -0.96,-0.02 0.04,0.98 6.04,0.98 6.04,-3.52 -0.96,-3.52
  text "'.Designator'" at -1.507,-2.11 h1
F.CrtYd:
  lines w0.254: -1.46,-4.02 -1.46,1.48 6.54,1.48 6.54,-4.02 -1.46,-4.02

## SW_NKK_NR01 [mm]
pads (10):
  rect 1.8x1.8 hole 1: 1(0,0)
  round 1.8 hole 1: 2(10.16,0) 3(10.16,-2.54) 4(10.16,-5.08) 5(0,-5.08) C(0,-2.54)
  rrect25% 3.5x1.5 hole 1: MP(2.54,-7.62) MP(2.54,2.54) MP(7.62,-7.62) MP(7.62,2.54)
F.SilkS:
  circle w0.254: c5.08,-2.54 r2.95
  lines w0.254: -0.62,2.16 -0.62,3.16 0.38,3.16 ; -0.42,-3.99 -0.42,-3.63 ; -0.37,-6.19 -0.37,-7.99 0.52,-7.99 ; -0.37,-1.43 -0.37,-1.17 ; -0.37,1.18 -0.37,2.91 0.52,2.91 ; 0.69,-1.59 cw(c5.08,-2.54) 0.802,-1.171 ; 0.691,-3.49 ccw(c5.08,-2.54) 1.509,-5.263 ; 1.17,-0.32 cw(c5.08,-2.54) 3.141,1.517 ; 1.5,-5.27 1.37,-5.39 ccw(c1.8,-5.82) 2.23,-6.25 2.35,-6.12 ; 2.351,-6.119 ccw(c5.08,-2.54) 3.104,-6.584 ; 4.5,1.91 cw(c5.08,-2.54) 5.649,1.911 ; 4.52,-7 ccw(c5.08,-2.54) 5.64,-7 ; 4.56,-7.99 5.6,-7.99 ; 4.57,2.91 5.59,2.91 ; 7.015,1.5 cw(c5.08,-2.54) 9.46,-1.6 ; 7.052,-6.575 ccw(c5.08,-2.54) 9.469,-3.49 ; 9.64,2.91 10.53,2.91 10.53,1.11 ; 9.65,-7.99 10.53,-7.99 10.53,-6.19 ; 10.58,-3.99 10.58,-3.63 ; 10.58,-1.45 10.58,-1.09
F.Fab:
  circle w0.254: c5.08,-2.54 r2.95
  lines w0.254: -0.27,-7.89 -0.27,0.81 1.73,2.81 10.43,2.81 10.43,-7.89 -0.27,-7.89 ; 1.406,-5.366 1.506,-5.266 cw(c5.08,-2.54) 2.354,-6.114 2.254,-6.214 cw(c1.8,-5.82) 1.406,-5.366
  text "'.Designator'" at 1.033,-3.38 h1
F.CrtYd:
  lines w0.254: -1.15,-8.62 -1.15,3.54 11.31,3.54 11.31,-8.62 -1.15,-8.62

## SW_PUSH-12mm [mm]
pads (4):
  rrect100% 3.2x1.9 hole 1.3: 1(0,0) 1(12.5,0) 2(0,-5) 2(12.5,-5)
F.SilkS:
  circle w0.254: c6.25,-2.5 r3.55
  lines w0.254: 0.14,-6.1 0.14,-8.61 12.36,-8.61 12.36,-6.1 ; 0.14,-3.8 0.14,-1.2 ; 0.14,1.1 0.14,3.61 12.36,3.61 12.36,1.1 ; 12.36,-3.8 12.36,-1.2
F.Fab:
  lines w0.254: 0.25,-8.5 0.25,3.5 12.25,3.5 12.25,-8.5 0.25,-8.5
  text "'.Designator'" at 2.203,-3.34 h1
F.CrtYd:
  lines w0.254: -1.5,-9.75 -1.5,4.75 14,4.75 14,-9.75 -1.5,-9.75